# EAGLE library part HIROSE_DM3CS-SF_MICROSD_CONNECTOR (library john_mamish_connector_library)
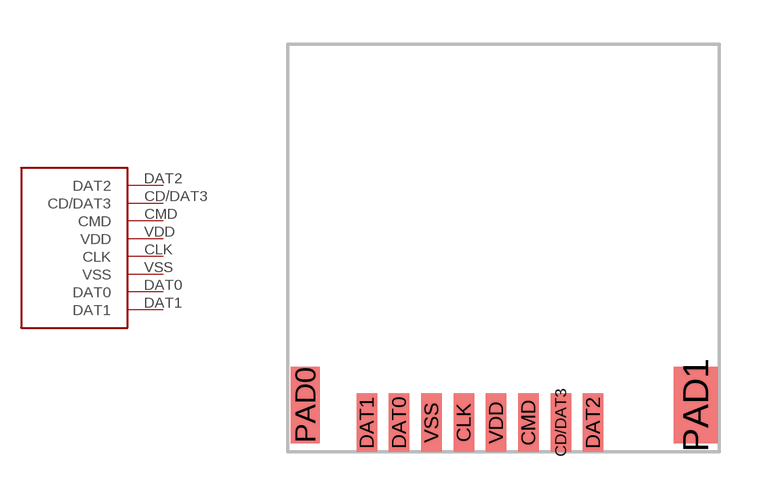
[diagram p0: symbol with the pads of HIROSE_DM3CS_MICROSD_CONNECTOR; footprint HIROSE_DM3CS_MICROSD_CONNECTOR]

Designator prefix -

## HIROSE_DM3CS-SF_MICROSD_CONNECTOR  [HIROSE_DM3CS_MICROSD_CONNECTOR]
CD/DAT3  CD/DAT3
CLK  CLK
CMD  CMD
DAT0  DAT0
DAT1  DAT1
DAT2  DAT2
VDD  VDD
VSS  VSS

## Footprint HIROSE_DM3CS_MICROSD_CONNECTOR (pad centres in mm)
smd 0.7 x 2: CD/DAT3 6.6,0; CLK 3.3,0; CMD 5.5,0; DAT0 1.1,0; DAT1 0,0; DAT2 7.7,0; VDD 4.4,0; VSS 2.2,0
smd 1 x 2.6: PAD0 -2.1,0.6
smd 1.5 x 2.6: PAD1 11.2,0.6